# Altium schematic symbol library PiZeroSchematicLibary.SchLib: 6 symbols
Pins are listed as number, name and electrical type; pins without a type are passive.

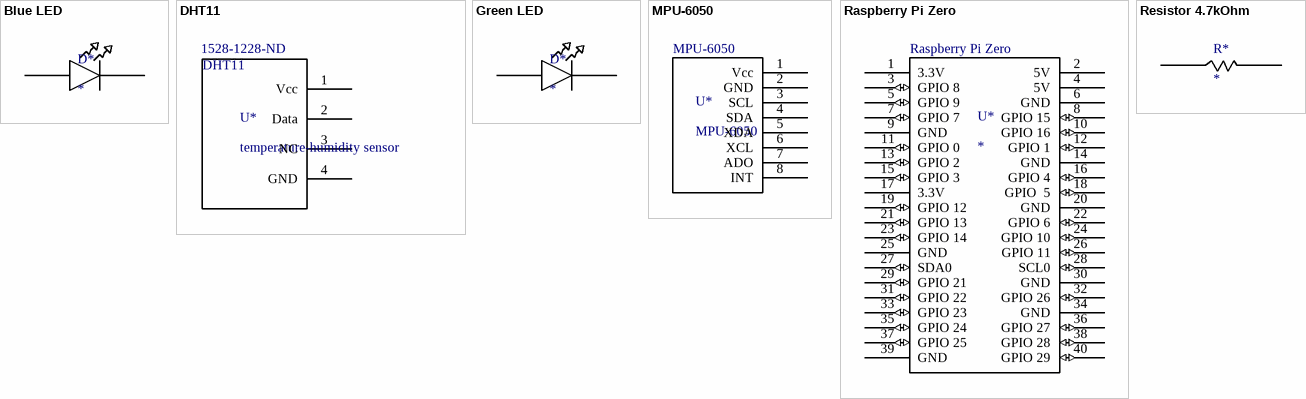
[diagram p0: symbols Blue LED to Resistor 4.7kOhm]

## Blue LED
designator D*
pins: 1, 2

## DHT11
designator U*, comment temperature-humidity sensor  Supplier Part Number 1: 1528-1228-ND
temperature-humidity sensor In out of Vcc, DQ, NC, GND; Manufacturer 1: Adafruit Industries; Manufacturer Part Number 1: 386; Description: SENSOR HUMID/TEMP 5V DTL 5% MOD; Response Time: 1s; Accuracy: 5%; Output Type: Digital; Supplier 1: Digi-Key; Stock 1: 312; RoHS: Yes; Mount: Chassis Mount; Min Operating Temperature: 0°C; Max Operating Temperature: 50°C; Series: -; Sensor Type: Temperature; ComponentLink1URL: https://media.digikey.com/pdf/Data%20Sheets/Adafruit%20PDFs/DHT11_ProdManual.pdf?src-supplier=Digi-Key; ComponentLink1Description: https://media.digikey.com/pdf/Data%20Sheets/Adafruit%20PDFs/DHT11_ProdManual.pdf?src-supplier=Digi-Key
pins: 1 Vcc, 2 Data, 3 NC, 4 GND

## Green LED
designator D*
pins: 1, 2

## MPU-6050
designator U*
3-axis Gyroscope, 3-axis Accelerometer.
pins: 1 Vcc, 2 GND, 3 SCL, 4 SDA, 5 XDA, 6 XCL, 7 ADO, 8 INT

## Raspberry Pi Zero
designator U*
pins: 1 3.3V (power), 2 5V (power), 3 GPIO 8 (io) "SDA1", 4 5V (power), 5 GPIO 9 (io) "SCL1", 6 GND, 7 GPIO 7 (io) "GPCLK0", 8 GPIO 15 (io) "TxD", 9 GND, 10 GPIO 16 (io) "RxD", 11 GPIO 0 (io), 12 GPIO 1 (io) "PCM_CLK", 13 GPIO 2 (io), 14 GND, 15 GPIO 3 (io), 16 GPIO 4 (io), 17 3.3V (power), 18 GPIO  5 (io), 19 GPIO 12 (io), 20 GND, 21 GPIO 13 (io), 22 GPIO 6 (io), 23 GPIO 14 (io), 24 GPIO 10 (io) "CE0", 25 GND, 26 GPIO 11 (io) "CE1", 27 SDA0 (io), 28 SCL0 (io) "DI_SC", 29 GPIO 21 (io), 30 GND (power), 31 GPIO 22 (io), 32 GPIO 26 (io) "PWM0", 33 GPIO 23 (io) "PWM1", 34 GND (power), 35 GPIO 24 (io), 36 GPIO 27 (io), 37 GPIO 25 (io), 38 GPIO 28 (io) "PCM_DIN", 39 GND (power), 40 GPIO 29 (io) "PCM_DOUT"

## Resistor 4.7kOhm
designator R*
4.7k Ohm resistor
pins: 56, 57